# Altium schematic symbol library SamacSys.SchLib: 6 symbols
Pins are listed as number, name and electrical type; pins without a type are passive.

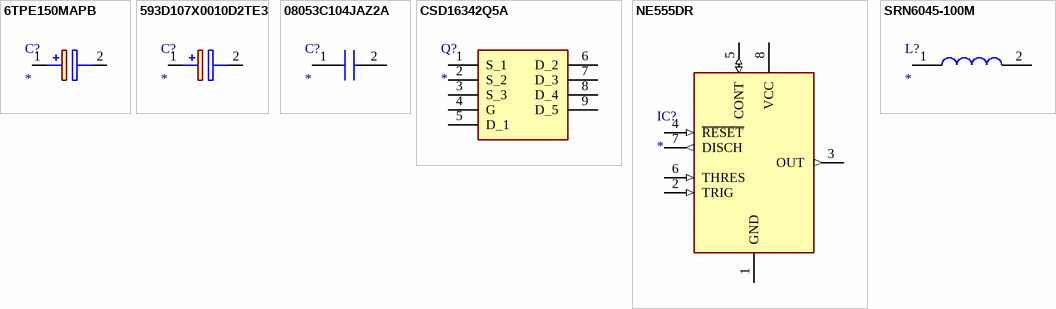
[diagram p0: symbols 6TPE150MAPB to SRN6045-100M]

## 6TPE150MAPB
designator C?
Capacitor Polarised; Manufacturer_Name: Panasonic; Manufacturer_Part_Number: 6TPE150MAPB; Description: Panasonic 150uF SMD Solid Polymer Tantalum Capacitor; Datasheet Link: http://industrial.panasonic.com/cdbs/www-data/pdf/AAA8000/AAA8000C36.pdf; Mouser Part Number: 667-6TPE150MAPB; Mouser Price/Stock: https://www.mouser.co.uk/ProductDetail/Panasonic/6TPE150MAPB?qs=OE1iw1LrrPEz9I7orNBPbg%3D%3D; Arrow Part Number: 6TPE150MAPB; Arrow Price/Stock: https://www.arrow.com/en/products/6tpe150mapb/panasonic
footprint POSCAP_B1_B1S_B1G_B15G_B2_B2S
pins: 1 +, 2 -

## 593D107X0010D2TE3
designator C?
Capacitor Polarised; Manufacturer_Name: Vishay; Manufacturer_Part_Number: 593D107X0010D2TE3; Datasheet Link: http://www.vishay.com/doc?40005; Height: 3.1mm; Mouser Part Number: 74-593D107X0010D2TE3; Mouser Price/Stock: https://www.mouser.co.uk/ProductDetail/Vishay-Sprague/593D107X0010D2TE3?qs=WKZjRGKR2xECxoAGmZtiiw%3D%3D; Arrow Part Number: 593D107X0010D2TE3; Arrow Price/Stock: https://www.arrow.com/en/products/593d107x0010d2te3/vishay
footprint CAPPM7343X310N
pins: 1 +, 2 -

## 08053C104JAZ2A
designator C?
Capacitor; Manufacturer_Name: AVX; Manufacturer_Part_Number: 08053C104JAZ2A; Mouser Part Number: 581-08053C104JAZ2A; Mouser Price/Stock: https://www.mouser.co.uk/ProductDetail/AVX/08053C104JAZ2A?qs=YtXa1zY%252Bjw7108MDhSwtdw%3D%3D; Arrow Part Number: 08053C104JAZ2A; Arrow Price/Stock: https://www.arrow.com/en/products/08053c104jaz2a/avx
footprint CAPC2013X94N
pins: 1 C1, 2 C2

## CSD16342Q5A
designator Q?
MOSFET (N-Channel); Manufacturer_Name: Texas Instruments; Manufacturer_Part_Number: CSD16342Q5A; Datasheet Link: https://datasheet.datasheetarchive.com/originals/distributors/Datasheets-DGA23/1589328.pdf; Height: 1.1mm; Mouser Part Number: 595-CSD16342Q5A; Mouser Price/Stock: https://www.mouser.co.uk/ProductDetail/Texas-Instruments/CSD16342Q5A?qs=Z9twEOuL%252B%2FIq75d1xpVJsQ%3D%3D; Arrow Part Number: CSD16342Q5A; Arrow Price/Stock: https://www.arrow.com/en/products/csd16342q5a/texas-instruments
footprint CSD16342Q5A
pins: 1 S_1, 2 S_2, 3 S_3, 4 G, 5 D_1, 6 D_2, 7 D_3, 8 D_4, 9 D_5

## NE555DR
designator IC?
Integrated Circuit; Manufacturer_Name: Texas Instruments; Manufacturer_Part_Number: NE555DR; Datasheet Link: http://www.ti.com/lit/ds/symlink/ne555.pdf; Height: 1.75mm; Mouser Part Number: 595-NE555DR; Mouser Price/Stock: https://www.mouser.com/Search/Refine.aspx?Keyword=595-NE555DR; RS Part Number: 1218414; RS Price/Stock: http://uk.rs-online.com/web/p/products/1218414
footprint SOIC127P600X175-8N
pins: 1 GND (power), 2 TRIG (in), 3 OUT (out), 4 ~{RESET} (in), 5 CONT (io), 6 THRES (in), 7 DISCH (out), 8 VCC (power)

## SRN6045-100M
designator L?
Inductor; Manufacturer_Name: Bourns; Manufacturer_Part_Number: SRN6045-100M; Datasheet Link: https://componentsearchengine.com/Datasheets/2/SRN6045-100M.pdf; Mouser Part Number: 652-SRN6045-100M; Mouser Price/Stock: https://www.mouser.co.uk/ProductDetail/Bourns/SRN6045-100M?qs=opBjA1TV900pBUPQKVevSA%3D%3D; Arrow Part Number: SRN6045-100M; Arrow Price/Stock: https://www.arrow.com/en/products/srn6045-100m/bourns?region=nac
footprint SRN6045_1
pins: 1, 2